# EAGLE library part F1478* (library Renesas)
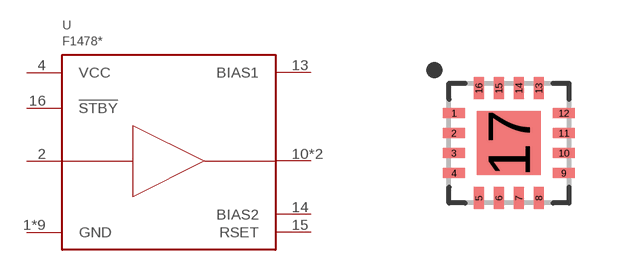
[diagram p3: symbol with the pads of QFN16; footprint QFN16]

Designator prefix U

## F1478NLGA  [QFN16]
1  GND
2  RFIN
3  GND
4  VCC
5  GND
6  GND
7  GND
8  GND
9  GND
10  RFOUT
11  RFOUT
12  GND
13  BIAS1
14  BIAS2
15  RSET
16  !STBY
17  GND

## Footprint QFN16 (pad centres in mm)
smd 0.55 x 0.25: 1 -1.375,0.75; 2 -1.375,0.25; 3 -1.375,-0.25; 4 -1.375,-0.75; 9 1.375,-0.75; 10 1.375,-0.25; 11 1.375,0.25; 12 1.375,0.75
smd 0.25 x 0.55: 5 -0.75,-1.375; 6 -0.25,-1.375; 7 0.25,-1.375; 8 0.75,-1.375; 13 0.75,1.375; 14 0.25,1.375; 15 -0.25,1.375; 16 -0.75,1.375
smd 1.6 x 1.6: 17 0,0